# Altium schematic symbol library mcu_holtek.SchLib: 2 symbols
Pins are listed as number, name and electrical type; pins without a type are passive.

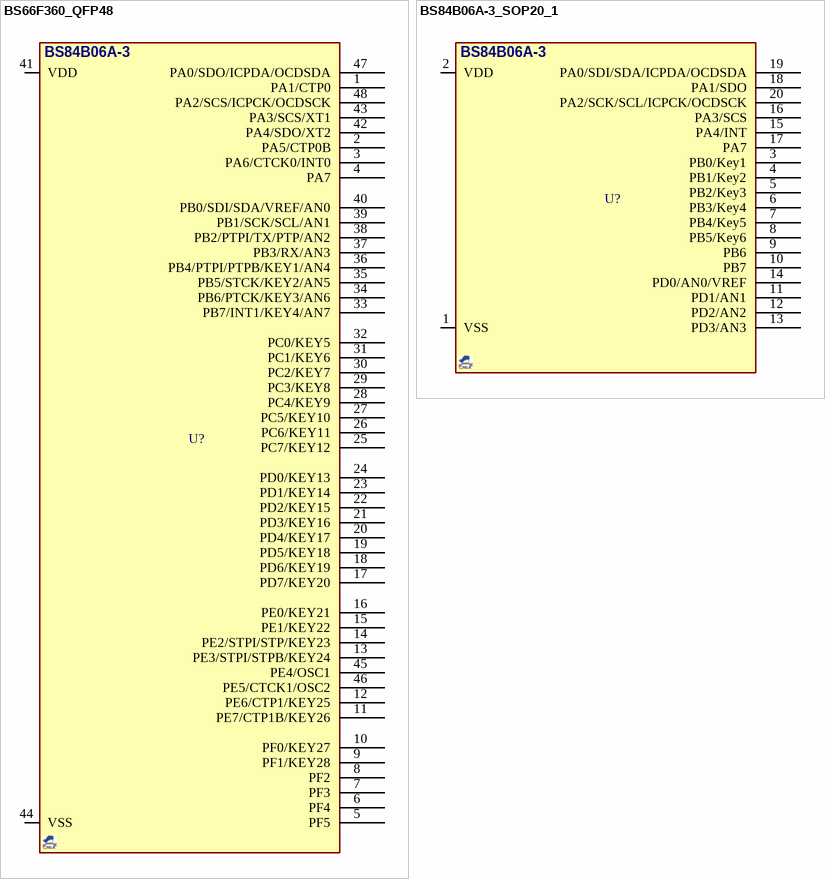
[diagram p0: symbols BS66F360_QFP48 to BS84B06A-3_SOP20_1]

## BS66F360_QFP48
designator U?, comment BS66F360  (value not drawn)
MCU, Flash, Touch A/D with LED driver; MANF: HOLTEK; MANF_P#: BS66F360 LQFP-48; PARAM2: 2.2~5.5Vcc; PARAM: 16k prog, 1k data, 128b eeprom, 46IO, 8 x ADC 12-bit; PRICE: 20t@micromodern; VALUE: BS66F360
footprint QFG50_48 (LQFP48, PQFF, PQFG, TSQFP, 48-Leads, Body 7.00x7.00mm, Pitch 0.50mm)
pins: 1 PA1/CTP0, 2 PA5/CTP0B, 3 PA6/CTCK0/INT0, 4 PA7, 5 PF5, 6 PF4, 7 PF3, 8 PF2, 9 PF1/KEY28, 10 PF0/KEY27, 11 PE7/CTP1B/KEY26, 12 PE6/CTP1/KEY25, 13 PE3/STPI/STPB/KEY24, 14 PE2/STPI/STP/KEY23, 15 PE1/KEY22, 16 PE0/KEY21, 17 PD7/KEY20, 18 PD6/KEY19, 19 PD5/KEY18, 20 PD4/KEY17, 21 PD3/KEY16, 22 PD2/KEY15, 23 PD1/KEY14, 24 PD0/KEY13, 25 PC7/KEY12, 26 PC6/KEY11, 27 PC5/KEY10, 28 PC4/KEY9, 29 PC3/KEY8, 30 PC2/KEY7, 31 PC1/KEY6, 32 PC0/KEY5, 33 PB7/INT1/KEY4/AN7, 34 PB6/PTCK/KEY3/AN6, 35 PB5/STCK/KEY2/AN5, 36 PB4/PTPI/PTPB/KEY1/AN4, 37 PB3/RX/AN3, 38 PB2/PTPI/TX/PTP/AN2, 39 PB1/SCK/SCL/AN1, 40 PB0/SDI/SDA/VREF/AN0, 41 VDD, 42 PA4/SDO/XT2, 43 PA3/SCS/XT1, 44 VSS, 45 PE4/OSC1, 46 PE5/CTCK1/OSC2, 47 PA0/SDO/ICPDA/OCDSDA, 48 PA2/SCS/ICPCK/OCDSCK
text: BS84B06A-3

## BS84B06A-3_SOP20_1
designator U?, comment BS84B06A-3  (value not drawn)
MCU, Flash, Touch A/D; MANF: HOLTEK; MANF_P#: BS84B06A-3/20 SOP-A; PARAM2: 2.7~5.5Vcc; PARAM: -; PRICE: -; VALUE: BS84B06A-3
footprint SO_20_W (SOP, SOIC, 7.5mm width, 1.27mm pitch,)
pins: 1 VSS, 2 VDD, 3 PB0/Key1, 4 PB1/Key2, 5 PB2/Key3, 6 PB3/Key4, 7 PB4/Key5, 8 PB5/Key6, 9 PB6, 10 PB7, 11 PD1/AN1, 12 PD2/AN2, 13 PD3/AN3, 14 PD0/AN0/VREF, 15 PA4/INT, 16 PA3/SCS, 17 PA7, 18 PA1/SDO, 19 PA0/SDI/SDA/ICPDA/OCDSDA, 20 PA2/SCK/SCL/ICPCK/OCDSCK